# EAGLE library part SKY13276 (library Pinoccio)
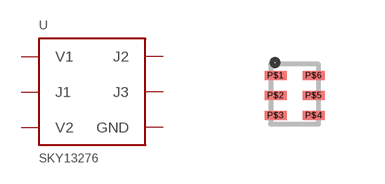
[diagram p31: symbol with the pads of SKY13276; footprint SKY13276]

Designator prefix -

## SKY13276  [SKY13276]
P$1  J3
P$2  GND
P$3  J2
P$4  V1
P$5  J1
P$6  V2

## Footprint SKY13276 (pad centres in mm)
smd 0.55 x 0.23: P$1 -0.475,0.515; P$2 -0.475,0.015; P$3 -0.475,-0.485; P$4 0.475,-0.485; P$5 0.475,0.015; P$6 0.475,0.515